# Altium schematic symbol library ferrite_bead.SchLib: 1 symbol
Pins are listed as number, name and electrical type; pins without a type are passive.

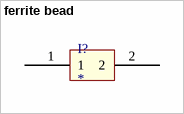
[diagram p0: symbol ferrite bead]

## ferrite bead
designator I?
ferrite bead
footprint INDC2012X11N (Chip Inductor, 2-Leads, Body 2.0x1.3mm, IPC Medium Density)
pins: 1, 2